# EAGLE library part ISO165 (library DAC714p)
Isolated Amplifier
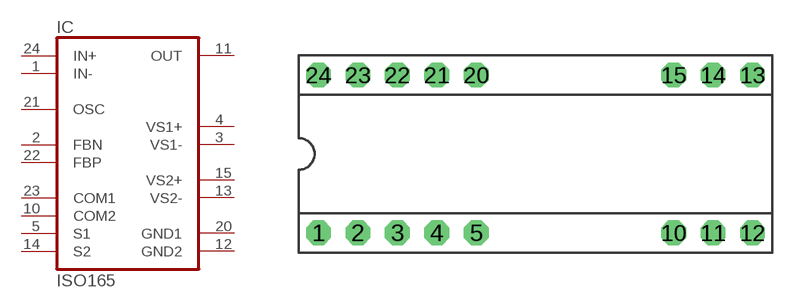
[diagram p16: symbol with the pads of D24-3/16; footprint D24-3/16]

Designator prefix IC

## ISO165R (OC_FARNELL: unknown; OC_NEWARK: unknown)  [D24-3/16]
1  IN-  in
2  FBN  pas
3  VS1-  pwr
4  VS1+  pwr
5  S1  pas
10  COM2  pas
11  OUT  out
12  GND2  pwr
13  VS2-  pwr
14  S2  pas
15  VS2+  pwr
20  GND1  pwr
21  OSC  in
22  FBP  pas
23  COM1  pas
24  IN+  in

## Footprint D24-3/16 (pad centres in mm)
Dual In Line 0.4 inch
drill 0.813 pad 1.6 octagon: 1 -13.97,-5.08; 2 -11.43,-5.08; 3 -8.89,-5.08; 4 -6.35,-5.08; 5 -3.81,-5.08; 10 8.89,-5.08; 11 11.43,-5.08; 12 13.97,-5.08; 13 13.97,5.08; 14 11.43,5.08; 15 8.89,5.08; 20 -3.81,5.08; 21 -6.35,5.08; 22 -8.89,5.08; 23 -11.43,5.08; 24 -13.97,5.08